# Altium footprint library TQFP80.PcbLib: 1 footprints
Each footprint in its own frame and in the unit in brackets; x right, y up, seen from the top. Pads: shape width x height; smd on the part's side, far side on the other; paste and mask are expansions set on the pad; w line width, h text height; cw(c..) or ccw(c..) is an arc to the next point about the centre after c.
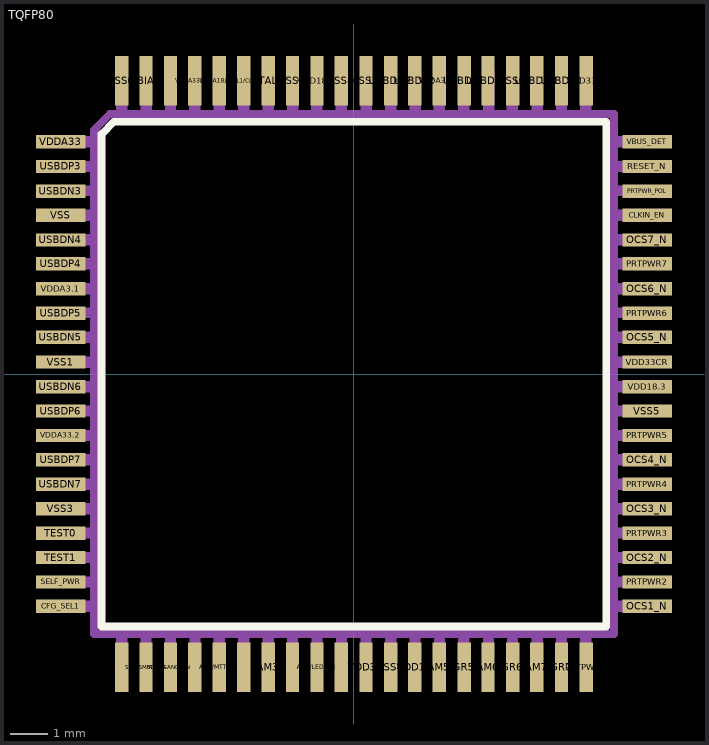
[diagram p0: the footprint, top view; thin cyan lines are the x and y axes]

## TQFP80 [mil]
pads (80):
  rect 14x52 smd: AM1/GANG_EN(-191.93,-307.09) AM2/MTT_EN(-140.75,-307.09) AM3(-89.57,-307.09) AM4/LED_EN(-38.39,-307.09) AM5(90,-307.09) AM6(141,-307.09) AM7(192,-307.09) ATEST/REG_EN(-191.93,308) GR1/NON_REM0(-166.34,-307.09) GR2_NON_REM1(-115.16,-307.09) GR3/PRT_DIS0(-63.98,-307.09) GR4/PRT_DIS1(-12.8,-307.09) GR5(116,-307.09) GR6(167,-307.09) GR7(218,-307.09) PRTPWR1(244,-307.09) RBIAS(-217.52,308) SCL/SMBCLK/CFG_SEL0(-243.11,-307.09) SDA/SMBDATA(-217.52,-307.09) USBDN0(192,308) USBDN1(141,308) USBDN2(39,308) USBDP0(218,308) USBDP1(116,308) USBDP2(64,308) VDD18(64,-307.09) VDD18.2(-38.39,308) VDD33(13,-307.09) VDD33.3(244,308) VDDA18/PLL(-140.75,308) VDDA33.4(90,308) VDDA33/PLL(-166.34,308) VSS0(-243.11,308) VSS4(39,-307.09) VSS6(167,308) VSS7(13,308) VSS8(-12.8,308) VSS9(-63.98,308) XTAL1/CLKIN(-115.16,308) XTAL2(-89.57,308)
  rect 52x14 smd: CFG_SEL1(-307.09,-243.11) CLKIN_EN(308,167) OCS1_N(308,-243.11) OCS2_N(308,-191.93) OCS3_N(308,-140.75) OCS4_N(308,-89.57) OCS5_N(308,39) OCS6_N(308,90) OCS7_N(308,141) PRTPWR2(308,-217.52) PRTPWR3(308,-166.34) PRTPWR4(308,-115.16) PRTPWR5(308,-63.98) PRTPWR6(308,64) PRTPWR7(308,116) PRTPWR_POL(308,192) RESET_N(308,218) SELF_PWR(-307.09,-217.52) TEST0(-307.09,-166.34) TEST1(-307.09,-191.93) USBDN3(-307.09,192) USBDN4(-307.09,141) USBDN5(-307.09,39) USBDN6(-307.09,-12.8) USBDN7(-307.09,-115.16) USBDP3(-307.09,218) USBDP4(-307.09,116) USBDP5(-307.09,64) USBDP6(-307.09,-38.39) USBDP7(-307.09,-89.57) VBUS_DET(308,244) VDD18.3(308,-12.8) VDD33CR(308,13) VDDA3.1(-307.09,90) VDDA33(-307.09,244) VDDA33.2(-307.09,-63.98) VSS(-307.09,167) VSS1(-307.09,13) VSS3(-307.09,-140.75) VSS5(308,-38.39)
Top Overlay:
  lines w8: -264.17,-264.17 265,-264.17 265,265 -251.18,265 -264.17,252 -264.17,-264.17
Mechanical 2:
  text "USB2507" at -150,-25 h77.5
Mechanical 4:
Mechanical 16:
  region: 237.5,319.5 237.5,272.5 249.5,272.5 249.5,319.5
  region: 212,320 212,272 224,272 224,320
  region: 186.5,319.5 186.5,272.5 198.5,272.5 198.5,319.5
  region: 160.5,319.5 160.5,272.5 172.5,272.5 172.5,319.5
  region: 135.5,319.5 135.5,272.5 147.5,272.5 147.5,319.5
  region: 109.5,319.5 109.5,272.5 121.5,272.5 121.5,319.5
  region: 84,320 84,272 96,272 96,320
  region: 58.5,319.5 58.5,272.5 70.5,272.5 70.5,319.5
  region: 33,320 33,272 45,272 45,320
  region: 7.09,319.91 7.09,272.09 19.09,272.09 19.09,319.91
  region: -18.71,319.71 -18.71,272.29 -6.71,272.29 -6.71,319.71
  region: -44.39,319.62 -44.39,272.38 -32.39,272.38 -32.39,319.62
  region: -69.98,319.62 -69.98,272.38 -57.98,272.38 -57.98,319.62
  region: -95.57,319.62 -95.57,272.38 -83.57,272.38 -83.57,319.62
  region: -121.16,319.62 -121.16,272.38 -109.16,272.38 -109.16,319.62
  region: -146.75,319.62 -146.75,272.38 -134.75,272.38 -134.75,319.62
  region: -172.34,319.62 -172.34,272.38 -160.34,272.38 -160.34,319.62
  region: -197.93,319.62 -197.93,272.38 -185.93,272.38 -185.93,319.62
  region: -223.52,319.62 -223.52,272.38 -211.52,272.38 -211.52,319.62
  region: -249.11,319.62 -249.11,272.38 -237.11,272.38 -237.11,319.62
  rectangle: -318.9,238 -271.65,250
  rectangle: -318.9,212 -271.65,224
  rectangle: -318.9,187 -271.65,198
  rectangle: -318.9,161 -271.65,173
  rectangle: -318.9,135 -271.65,147
  rectangle: -318.9,110 -271.65,122
  rectangle: -318.9,84 -271.65,96
  rectangle: -318.9,59 -271.65,70
  rectangle: -318.9,33 -271.65,45
  rectangle: -318.9,7 -271.65,19
  rectangle: -318.9,-18.7 -271.65,-6.89
  rectangle: -318.9,-44.29 -271.65,-32.48
  rectangle: -318.9,-69.88 -271.65,-58.07
  rectangle: -318.9,-95.47 -271.65,-83.66
  rectangle: -318.9,-121.06 -271.65,-109.25
  rectangle: -318.9,-146.65 -271.65,-134.84
  rectangle: -318.9,-172.24 -271.65,-160.43
  rectangle: -318.9,-197.83 -271.65,-186.02
  rectangle: -318.9,-223.43 -271.65,-211.61
  rectangle: -318.9,-249.02 -271.65,-237.2
  region: -237.2,-318.9 -237.2,-271.65 -249.02,-271.65 -249.02,-318.9
  region: -211.61,-318.9 -211.61,-271.65 -223.43,-271.65 -223.43,-318.9
  region: -186.02,-318.9 -186.02,-271.65 -197.83,-271.65 -197.83,-318.9
  region: -160.43,-318.9 -160.43,-271.65 -172.24,-271.65 -172.24,-318.9
  region: -134.84,-318.9 -134.84,-271.65 -146.65,-271.65 -146.65,-318.9
  region: -109.25,-318.9 -109.25,-271.65 -121.06,-271.65 -121.06,-318.9
  region: -83.66,-318.9 -83.66,-271.65 -95.47,-271.65 -95.47,-318.9
  region: -58.07,-318.9 -58.07,-271.65 -69.88,-271.65 -69.88,-318.9
  region: -32.48,-318.9 -32.48,-271.65 -44.29,-271.65 -44.29,-318.9
  region: -6.8,-318.98 -6.8,-271.57 -18.61,-271.57 -18.61,-318.98
  region: 18.99,-319.19 18.99,-271.36 7.18,-271.36 7.18,-319.19
  region: 44.91,-319.28 44.91,-271.28 33.09,-271.28 33.09,-319.28
  region: 70.41,-318.78 70.41,-271.78 58.59,-271.78 58.59,-318.78
  region: 95.91,-319.28 95.91,-271.28 84.09,-271.28 84.09,-319.28
  region: 121.41,-318.78 121.41,-271.78 109.59,-271.78 109.59,-318.78
  region: 147.41,-318.78 147.41,-271.78 135.59,-271.78 135.59,-318.78
  region: 172.41,-318.78 172.41,-271.78 160.59,-271.78 160.59,-318.78
  region: 198.41,-318.78 198.41,-271.78 186.59,-271.78 186.59,-318.78
  region: 223.91,-319.28 223.91,-271.28 212.09,-271.28 212.09,-319.28
  region: 249.41,-318.78 249.41,-271.78 237.59,-271.78 237.59,-318.78
  region: 319,-237.2 272,-237.2 272,-249.02 319,-249.02
  region: 319,-211.61 272,-211.61 272,-223.43 319,-223.43
  region: 319,-186.02 272,-186.02 272,-197.83 319,-197.83
  region: 319,-160.43 272,-160.43 272,-172.24 319,-172.24
  region: 319,-134.84 272,-134.84 272,-146.65 319,-146.65
  region: 319,-109.25 272,-109.25 272,-121.06 319,-121.06
  region: 319,-83.66 272,-83.66 272,-95.47 319,-95.47
  region: 319,-58.07 272,-58.07 272,-69.88 319,-69.88
  region: 319,-32.48 272,-32.48 272,-44.29 319,-44.29
  region: 319,-6.89 272,-6.89 272,-18.7 319,-18.7
  region: 319,19 272,19 272,7 319,7
  region: 319,45 272,45 272,33 319,33
  region: 319,70 272,70 272,59 319,59
  region: 319,96 272,96 272,84 319,84
  region: 319,122 272,122 272,110 319,110
  region: 319,147 272,147 272,135 319,135
  region: 319,173 272,173 272,161 319,161
  region: 319,198 272,198 272,187 319,187
  region: 319,224 272,224 272,212 319,212
  region: 319,250 272,250 272,238 319,238
  lines w8: -272.05,-272.05 -272.05,256 -255.51,273 273,273 273,-272.05 -272.05,-272.05